# Altium footprint library 15462163.PcbLib: 1 footprints
Each footprint in its own frame and in the unit in brackets; x right, y up, seen from the top. Pads: shape width x height; smd on the part's side, far side on the other; paste and mask are expansions set on the pad; w line width, h text height; cw(c..) or ccw(c..) is an arc to the next point about the centre after c.
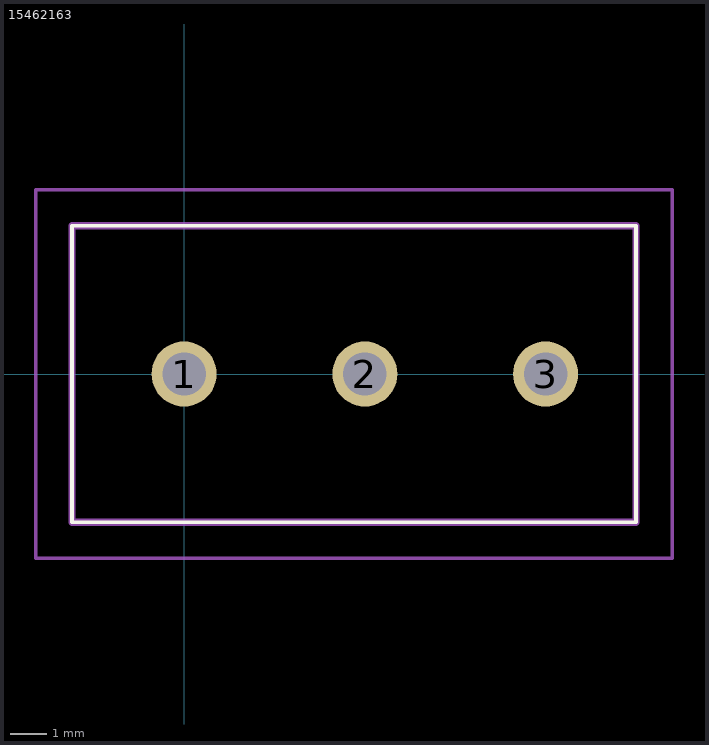
[diagram p0: the footprint, top view; thin cyan lines are the x and y axes]

## 15462163 [mm]
pads (3):
  round 1.8 hole 1.2: 1(0,0) 2(5,0) 3(10,0)
Top Overlay:
  lines w0.1: -3.1,-4.1 12.5,-4.1 12.5,4.1 -3.1,4.1 -3.1,-4.1
Mechanical 15:
  lines w0.2: -3.1,-4.1 12.5,-4.1 12.5,4.1 -3.1,4.1 -3.1,-4.1
Mechanical 20:
  lines w0.1: -4.1,-5.1 13.5,-5.1 13.5,5.1 -4.1,5.1 -4.1,-5.1
3D body "1546216-3.stp": height 5.8, standoff -4.65, extent -10,-3.376 10,3.376